# Altium schematic symbol library 电源芯片.SchLib: 1 symbol
Pins are listed as number, name and electrical type; pins without a type are passive.

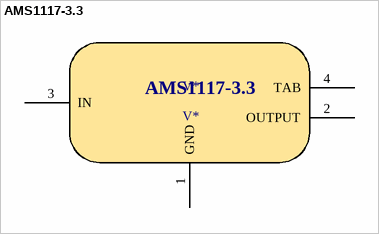
[diagram p0: symbol AMS1117-3.3]

## AMS1117-3.3
designator V*, comment V*
footprint SOT223-AMS1117 (SOT223, 4-Leads, Body 6.30x6.95mm (avg), Pitch 2.30mm, IPC Medium Density)
pins: 1 GND, 2 OUTPUT, 3 IN, 4 TAB